# Altium schematic symbol library Components.SchLib: 22 symbols
Pins are listed as number, name and electrical type; pins without a type are passive.

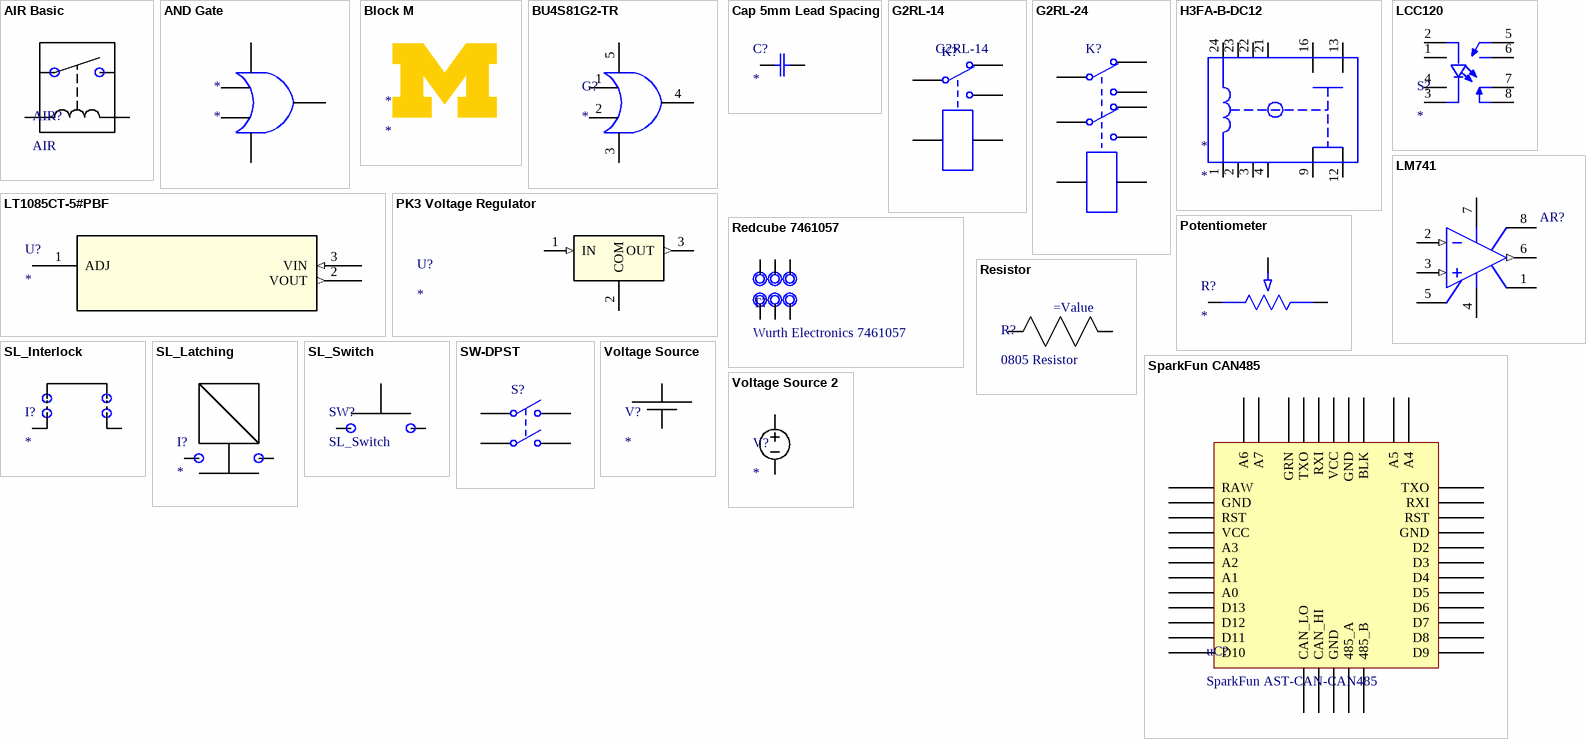
[diagram p0: symbols AIR Basic to Voltage Source 2]

## AIR Basic
designator AIR?, comment AIR
Schematic Symbol
pins: Coil1, Coil2

## AND Gate
designator *
Schematic Symbol
pins: 11, 12, 13, 14, 15

## Block M
designator *
footprint Block M 8mm
footprint Block M 8mm Bottom
footprint Block M 22mm
footprint Block M 22mm Bottom

## BU4S81G2-TR
designator G?
AND Gate; Supplier 1: Mouser; Supplier Part Number 1: 755-BU4S81G2-TR; Supplier 2: Digi-Key; Supplier Part Number 2: BU4S81G2DKR-ND
footprint BU4S81G2-TR (SOT23, 5-Leads, Body 2.90x2.80mm, Pitch 0.95mm, IPC Medium Density)
pins: 1, 2, 3 VSS, 4 Y, 5 VDD

## Cap 5mm Lead Spacing
designator C?
Imported; Manufacturer_Part_Number: UCS2G100MPD1TD; Vendor: Nichicon; Built_By: EMA_UL_Team; Type: DEV; C: Copyright (C) 2015 Accelerated Designs. All rights reserved; RefDes: RefDes; Value: Value; Supplier 1: Digi-Key; Supplier Part Number 1: 493-7383-1-ND
footprint U1-T
pins: 1, 2

## G2RL-14
designator K?
Single-Pole Dual-Throw Relay; Published: 24-Mar-1999; LatestRevisionDate: 17-Jul-2002; LatestRevisionNote: Re-released for DXP Platform.; PackageReference: MODULE5B; Publisher: Altium Limited; Supplier 1: Digi-Key; Supplier 2: Mouser
footprint G2RL-14
pins: 1, 2, 3, 4, 5

## G2RL-24
designator K?
Dual-Pole Dual-Throw Relay; Published: 24-Mar-1999; LatestRevisionDate: 17-Jul-2002; LatestRevisionNote: Re-released for DXP Platform.; PackageReference: DIP-P8; Publisher: Altium Limited; PackageDescription: Relay; 8 Leads; Supplier 1: Digi-Key; Supplier 2: Mouser
footprint G2RL-24
pins: 1, 2, 3, 4, 5, 6, 7, 8

## H3FA-B-DC12
designator *
Time Delay Relay; Supplier 1: Digi-Key; Supplier 2: Mouser
footprint H3FA-B
pins: 1, 2, 3, 4, 9, 12, 13, 16, 21, 22, 23, 24

## LCC120
designator S?
Solid State Relay; Supplier 1: Digi-Key; Supplier 2: Mouser
footprint LCC120 (DIP; 8 Leads; Row Spacing 7.62 mm; Pitch 2.54 mm)
pins: 1 X, 2 +, 3 -, 4 X, 5 5NO, 6 6NO, 7 7NC, 8 8NC

## LM741
designator AR?
Op Amp; Published: 8-Jun-2000; LatestRevisionDate: 17-Jul-2002; LatestRevisionNote: Re-released for DXP Platform.; DatasheetVersion: REV. B; PackageVersion: 1990; PackageReference: H-08A; Publisher: Altium Limited; PackageDescription: Can; 8 Leads; Pin Circle Dia. 5.08 mm; Lead Dia. 0.53 mm (max)
simulation model AD645A (Spice Subcircuit)
footprint LM741 (DIP; 8 Leads; Row Spacing 7.62 mm; Pitch 2.54 mm)
pins: 1 OS NUL, 2 IN- (in), 3 IN+ (in), 4 V- (power), 5 OS NUL, 6 OUT (out), 7 V+ (power), 8 TAB

## LT1085CT-5#PBF
designator U?
3A maximum current, Imported; Manufacturer_Part_Number: LT1085CT-5#PBF; Vendor: Linear Technology; Built_By: EMA_UL_Team; RefDes: RefDes; Type: DEV; Value: Value; Supplier 1: Digi-Key
footprint TO220-3_T
pins: 1 ADJ, 2 VOUT (out), 3 VIN (in)

## PK3 Voltage Regulator
designator U?
100mA maximum current, Imported; Manufacturer_Part_Number: UA78L05ACPK; Vendor: Texas Instruments; Built_By: EMA_UL_Team; C: Copyright (C) 2015 Accelerated Designs. All rights reserved; Manufacturer: Texas Instruments; RefDes: RefDes; Type: DEV; Value: Value; Supplier 1: Digi-Key; Supplier 2: Digi-Key; Supplier 3: Digi-Key; Supplier Part Number 3: 296-11118-6-ND
footprint PK3
pins: 1 IN (in), 2 COM, 3 OUT (out)

## Potentiometer
designator R?
Imported; Manufacturer_Part_Number: PV36W103C01B00; Vendor: Murata; Built_By: EMA_UL_Team; C: Copyright (C) 2015 Accelerated Designs. All rights reserved; RefDes: RefDes; Type: DEV; Value: Value; Supplier 1: Digi-Key
footprint POT_PV36W
pins: 1, 2, 3

## Redcube 7461057
designator T?, comment Wurth Electronics 7461057
Screw Terminal; Supplier 1: Digi-Key; Supplier 2: Mouser
footprint Redcube 7461057 (Wurth Electronics)
pins: 1, 2, 3, 4, 5, 6

## Resistor
designator R?, comment 0805 Resistor
0805 SMD Resistor; Parameter 1: Value
footprint 0805 SMD Resistor
pins: 1, 2

## SL_Interlock
designator I?
Schematic Symbol
pins: IN, OUT

## SL_Latching
designator I?
Schematic Symbol
pins: IN, OUT

## SL_Switch
designator SW?
Schematic Symbol
pins: IN, OUT

## SparkFun CAN485
designator uC?, comment SparkFun AST-CAN-CAN485
SparkFun AST-CAN-CAN485 Microcontroller; ComponentLink1Description: Product Page; ComponentLink1URL: https://www.sparkfun.com/products/14483
footprint Sparkfun AST-CAN485
pins: 485_A, 485_B, A0, A1, A2, A3, A4, A5, A6, A7, BLK, CAN_HI, CAN_LO, D2, D3, D4, D5, D6, D7, D8, D9, D10, D11, D12, D13, GND_B GND, GND_L GND, GND_R GND, GND_T GND, GRN, RAW, RST_L RST, RST_R RST, RXI_L RXI, RXI_T RXI, TXO_L TXO, TXO_T TXO, VCC_R VCC, VCC_T VCC

## SW-DPST
designator S?
Double-Pole, Single-Throw Switch; Published: 24-Mar-1999; LatestRevisionDate: 17-Jul-2002; LatestRevisionNote: Re-released for DXP Platform.; PackageReference: DPST-4; Publisher: Altium Limited; PackageDescription: Switch; 4 Leads
footprint SW_1825910-6-4
pins: 1 COMMON1, 2 COMMON2, 3 NO1, 4 NO2

## Voltage Source
designator V?
Schematic Symbol
pins: +, -

## Voltage Source 2
designator V?
Schematic Symbol
pins: +, -